# EAGLE library part LTC6802-2 (library ltc6802)
LTC6802-2 The LTC®6802-2 is a complete battery monitoring IC that includes a 12-bit ADC, a precision voltage reference, a high voltage input multiplexer and a serial interface. Each LTC6802-2 can measure 12 series connected battery cells, with a total input voltage up to 60V. The voltage on all 12 input channels can be measured within 13ms. Many LTC6802-2 devices can be stacked to measure the voltage of each cell in a long battery string. Each LTC6802-2 has an individually addressable serial interface, allowing up to 16 LTC6802-2 devices to interface to one control processor and operate simultaneously. To minimize power, the LTC6802-2 offers a measure mode to monitor each cell for overvoltage and undervoltage conditions. A standby mode is also provided to reduce supply current to 50µA. Each cell input has an associated MOSFET switch that can discharge any overcharged cell. The related LTC6802-1 offers a serial interface that allows the serial ports of multiple LTC6802-1 devices to be daisy chained without opto-couplers or isolators.
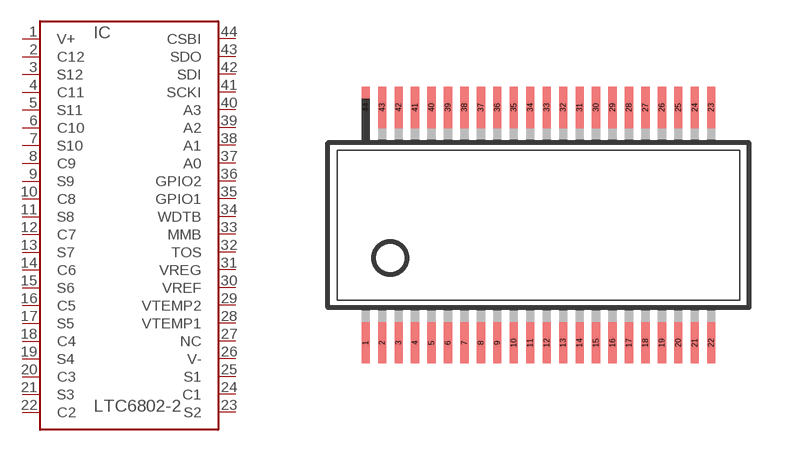
[diagram p5: symbol with the pads of SSOP44DL; footprint SSOP44DL]

Designator prefix IC

## LTC6802-2  [SSOP44DL]
1  V+  pwr
2  C12  in
3  S12  out
4  C11  in
5  S11  out
6  C10  in
7  S10  out
8  C9  in
9  S9  out
10  C8  in
11  S8  out
12  C7  in
13  S7  out
14  C6  in
15  S6  out
16  C5  in
17  S5  out
18  C4  in
19  S4  out
20  C3  in
21  S3  out
22  C2  in
23  S2  out
24  C1  in
25  S1  out
26  V-  pwr
27  NC  nc
28  VTEMP1  in
29  VTEMP2  in
30  VREF  pwr
31  VREG  pwr
32  TOS  in
33  MMB  in
34  WDTB  out
35  GPIO1
36  GPIO2
37  A0  in
38  A1  in
39  A2  in
40  A3  in
41  SCKI  in
42  SDI  in
43  SDO  out
44  CSBI  in

## Footprint SSOP44DL (pad centres in mm)
Shrink Small Outline Package
smd 0.25 x 1.25: 1 -5.25,-3.575; 2 -4.75,-3.575; 3 -4.25,-3.575; 4 -3.75,-3.575; 5 -3.25,-3.575; 6 -2.75,-3.575; 7 -2.25,-3.575; 8 -1.75,-3.575; 9 -1.25,-3.575; 10 -0.75,-3.575; 11 -0.25,-3.575; 12 0.25,-3.575; 13 0.75,-3.575; 14 1.25,-3.575; 15 1.75,-3.575; 16 2.25,-3.575; 17 2.75,-3.575; 18 3.25,-3.575; 19 3.75,-3.575; 20 4.25,-3.575; 21 4.75,-3.575; 22 5.25,-3.575; 23 5.25,3.575; 24 4.75,3.575; 25 4.25,3.575; 26 3.75,3.575; 27 3.25,3.575; 28 2.75,3.575; 29 2.25,3.575; 30 1.75,3.575; 31 1.25,3.575; 32 0.75,3.575; 33 0.25,3.575; 34 -0.25,3.575; 35 -0.75,3.575; 36 -1.25,3.575; 37 -1.75,3.575; 38 -2.25,3.575; 39 -2.75,3.575; 40 -3.25,3.575; 41 -3.75,3.575; 42 -4.25,3.575; 43 -4.75,3.575; 44 -5.25,3.575